# Altium schematic symbol library header_pin.SchLib: 17 symbols
Pins are listed as number, name and electrical type; pins without a type are passive.

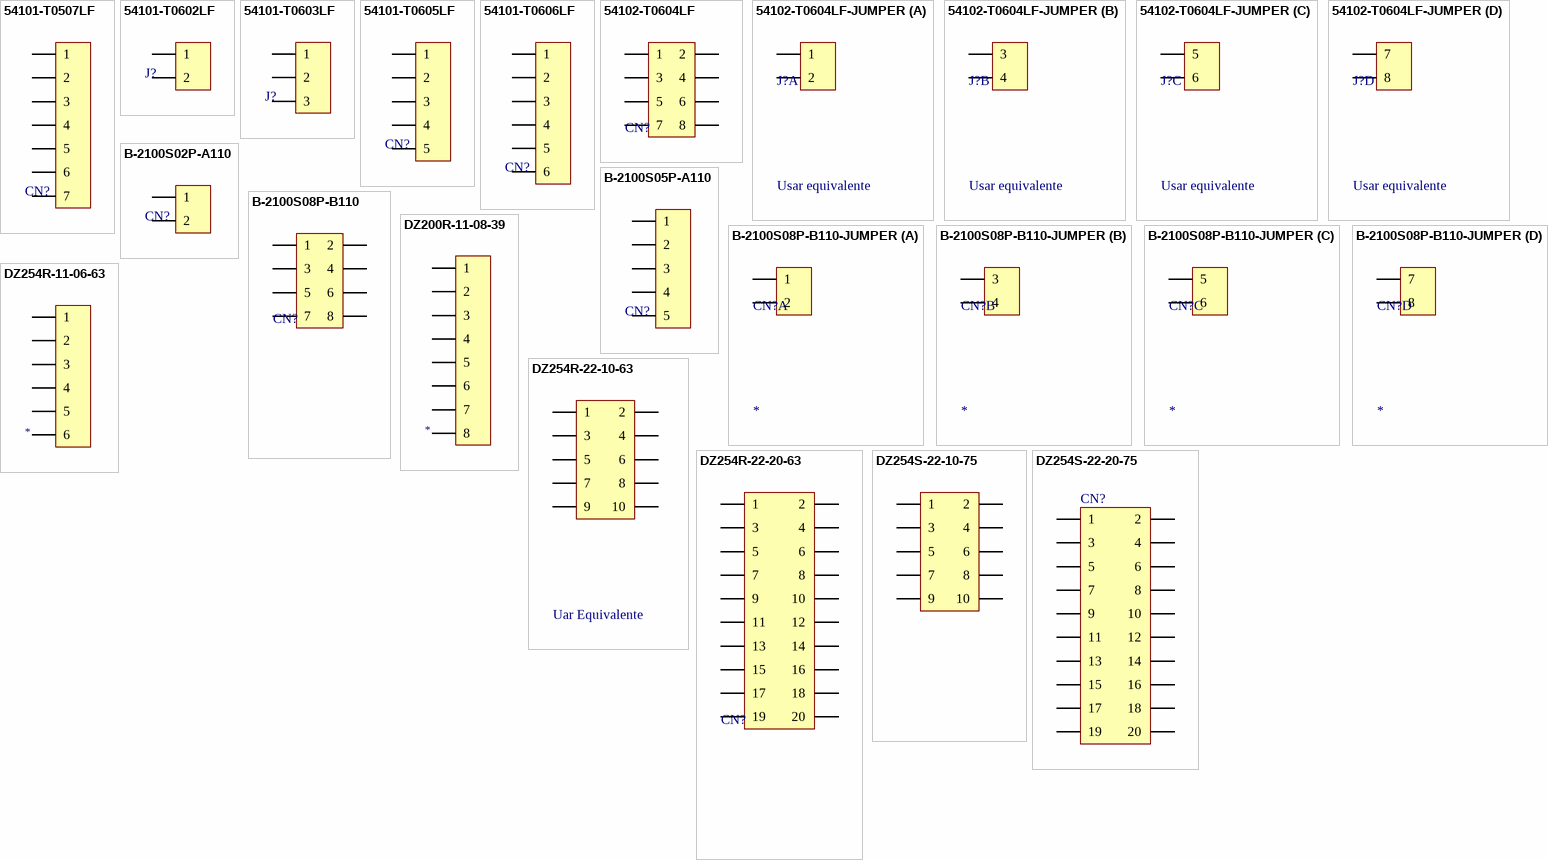
[diagram p0: symbols 54101-T0507LF to DZ254S-22-20-75]

## 54101-T0507LF
designator CN?  (value not drawn)
1 x 7 - true hole  2.54mm - Pb free; Manufacturer: Amphenol ICC; Manufacturer Part Number: 54101-T0507LF; Category: Header pin; Datasheet: https://datasheet.lcsc.com/lcsc/2202082130_Amphenol-ICC-54101-T06-00_C213463.pdf
footprint HEADER PIN 1X7
pins: 1, 2, 3, 4, 5, 6, 7

## 54101-T0602LF
designator J?, comment Usar Equivalente  (value not drawn)
1 x 2 - true hole  2.54mm - Pb free; Manufacturer: Amphenol ICC; Manufacturer Part Number: 54101-T0602LF; Equivalente: B-2100S02P-A110; Category: Header pin; Datasheet: https://datasheet.lcsc.com/lcsc/2202082130_Amphenol-ICC-54101-T06-00_C213463.pdf
footprint HEADER PIN 1X2
pins: 1, 2

## 54101-T0603LF
designator J?
1 x 3 - true hole  2.54mm - Pb free; Manufacturer: Amphenol ICC; Manufacturer Part Number: 54101-T0603LF; Category: Header pin; Datasheet: https://datasheet.lcsc.com/lcsc/2202082130_Amphenol-ICC-54101-T06-00_C213463.pdf
footprint HEADER PIN 1X3
pins: 1, 2, 3

## 54101-T0605LF
designator CN?
1 x 5 - true hole  2.54mm - Pb free; Manufacturer: Amphenol ICC; Manufacturer Part Number: 54101-T0605LF; Category: Header pin; Datasheet: https://datasheet.lcsc.com/lcsc/2202082130_Amphenol-ICC-54101-T06-00_C213463.pdf
footprint HEADER PIN 1X5
pins: 1, 2, 3, 4, 5

## 54101-T0606LF
designator CN?  (value not drawn)
1 x 6 - true hole  2.54mm - Pb free; Manufacturer: Amphenol ICC; Manufacturer Part Number: 54101-T0606LF; Category: Header pin; Datasheet: https://datasheet.lcsc.com/lcsc/2202082130_Amphenol-ICC-54101-T06-00_C213463.pdf
footprint HEADER PIN 1X6
pins: 1, 2, 3, 4, 5, 6

## 54102-T0604LF
designator CN?, comment Usar Equivalente  (value not drawn)
2 x 4 - true hole  2.54mm; Manufacturer: Amphenol ICC; Manufacturer PartNumber: 54102-T0604LF; Equivalente: PZ254V-12-8P; Category: Pin header; Datasheet: New link
footprint HEADER PIN 2X4
pins: 1, 2, 3, 4, 5, 6, 7, 8

## 54102-T0604LF-JUMPER
designator J?, comment Usar equivalente
2 x 4  - true hole  2.54mm; Manufacturer: Amphenol ICC; Manufacturer PartNumber: 54102-T0604LF; Equivalente: PZ254V-12-8P; Category: Header pin; Datasheet: New link
footprint HEADER PIN 2X4
part A pins: 1, 2
part B pins: 3, 4
part C pins: 5, 6
part D pins: 7, 8

## B-2100S02P-A110
designator CN?
1 x 2 - true hole  2.54mm; Manufacturer: Ckmtw; Manufacturer Part Number: B-2100S02P-A110; Category: Header pin; Datasheet: https://datasheet.lcsc.com/lcsc/2210192330_Ckmtw-Shenzhen-Cankemeng-B-2100S02P-A110_C124375.pdf
footprint HEADER PIN 1X2
pins: 1, 2

## B-2100S05P-A110
designator CN?
1 x 5 - true hole  2.54mm; Manufacturer: Ckmtw; Manufacturer Part Number: B-2100S05P-A110; Category: Header pin; Datasheet: https://datasheet.lcsc.com/lcsc/2304140030_Ckmtw-Shenzhen-Cankemeng-B-2100S05P-A110_C124379.pdf
footprint HEADER PIN 1X5
pins: 1, 2, 3, 4, 5

## B-2100S08P-B110
designator CN?
2 x 4  - true hole  2.54mm; Manufacturer: Ckmtw; Manufacturer PartNumber: B-2100S08P-B110; Category: Header pin; Datasheet: https://datasheet.lcsc.com/lcsc/2304140030_Ckmtw-Shenzhen-Cankemeng-B-2100S08P-B110_C124386.pdf
footprint HEADER PIN 2X4
pins: 1, 2, 3, 4, 5, 6, 7, 8

## B-2100S08P-B110-JUMPER
designator CN?
2 x 4 - true hole  2.54mm; Manufacturer: Ckmtw; Manufacturer Part Number: B-2100S08P-B110; Category: Header pin; Datasheet: https://datasheet.lcsc.com/lcsc/2304140030_Ckmtw-Shenzhen-Cankemeng-B-2100S08P-B110_C124386.pdf
footprint HEADER PIN 2X4
part A pins: 1, 2
part B pins: 3, 4
part C pins: 5, 6
part D pins: 7, 8

## DZ200R-11-08-39
designator *  (value not drawn)
1 x 8 - true hole 2mm; Manufacturer: Dealon; Manufacturer Part Number: DZ200R-11-08-39; Category: Header pin; Datasheet: https://datasheet.lcsc.com/lcsc/2201121700_DEALON-DZ200R-11-08-39_C2935907.pdf
footprint DZ200R-11-08-39
pins: 1, 2, 3, 4, 5, 6, 7, 8

## DZ254R-11-06-63
designator *  (value not drawn)
1 x 6 - true hole 2.54mm -; Manufacturer: Dealon; Manufacturer Part Number: DZ254R-11-06-63; Category: Header pin; Datasheet: https://datasheet.lcsc.com/lcsc/2201121700_DEALON-DZ254R-11-06-63_C2935912.pdf
footprint HEADER PIN 1X6
pins: 1, 2, 3, 4, 5, 6

## DZ254R-22-10-63
designator CN?, comment Uar Equivalente
2 x 5 - true hole 2.54mm; Manufacturer: DEALON; Manufacturer Part Number: DZ254R-22-10-63; Equivalente: PZ254V-12-10P; Category: Header pin; Datasheet: https://datasheet.lcsc.com/lcsc/2201121730_DEALON-DZ254R-22-10-63_C2935920.pdf
footprint HEADER PIN 2X5
footprint HEADER PIN 2X5 MIRROR
pins: 1, 2, 3, 4, 5, 6, 7, 8, 9, 10

## DZ254R-22-20-63
designator CN?
2 x 10 - true hole 2.54mm; Manufacturer: DEALON; Manufacturer Part Number: DZ254R-22-20-63; ComponentLink1Description: Datasheet; ComponentLink1URL: https://datasheet.lcsc.com/lcsc/2201121730_DEALON-DZ254R-22-20-63_C2935926.pdf; Category: Header pin
footprint HEADER PIN 2X10
pins: 1, 2, 3, 4, 5, 6, 7, 8, 9, 10, 11, 12, 13, 14, 15, 16, 17, 18, 19, 20

## DZ254S-22-10-75
designator CN?
2 x 5 - SMD 2.54mm; Manufacturer: DEALON; Manufacturer Part Number: DZ254S-22-10-75; Category: Header pin; Datasheet: https://datasheet.lcsc.com/lcsc/2209141730_DEALON-DZ254S-22-10-75_C5160779.pdf
footprint HEADER PIN 2X5 SMD
pins: 1, 2, 3, 4, 5, 6, 7, 8, 9, 10

## DZ254S-22-20-75
designator CN?  (value not drawn)
2 x 10 - SMD 2.54mm; Manufacturer: DEALON; Manufacturer Part Number: DZ254S-22-10-75; Category: Header pin; Datasheet: https://datasheet.lcsc.com/lcsc/2209141730_DEALON-DZ254S-22-20-75_C5160784.pdf
footprint HEADER PIN 2X10 SMD
pins: 1, 2, 3, 4, 5, 6, 7, 8, 9, 10, 11, 12, 13, 14, 15, 16, 17, 18, 19, 20